# Altium footprint library 二三极管 MOS.PCBLIB: 88 footprints (part 4 of 6)
Each footprint in its own frame and in the unit in brackets; x right, y up, seen from the top. Pads: shape width x height; smd on the part's side, far side on the other; paste and mask are expansions set on the pad; w line width, h text height; cw(c..) or ccw(c..) is an arc to the next point about the centre after c.
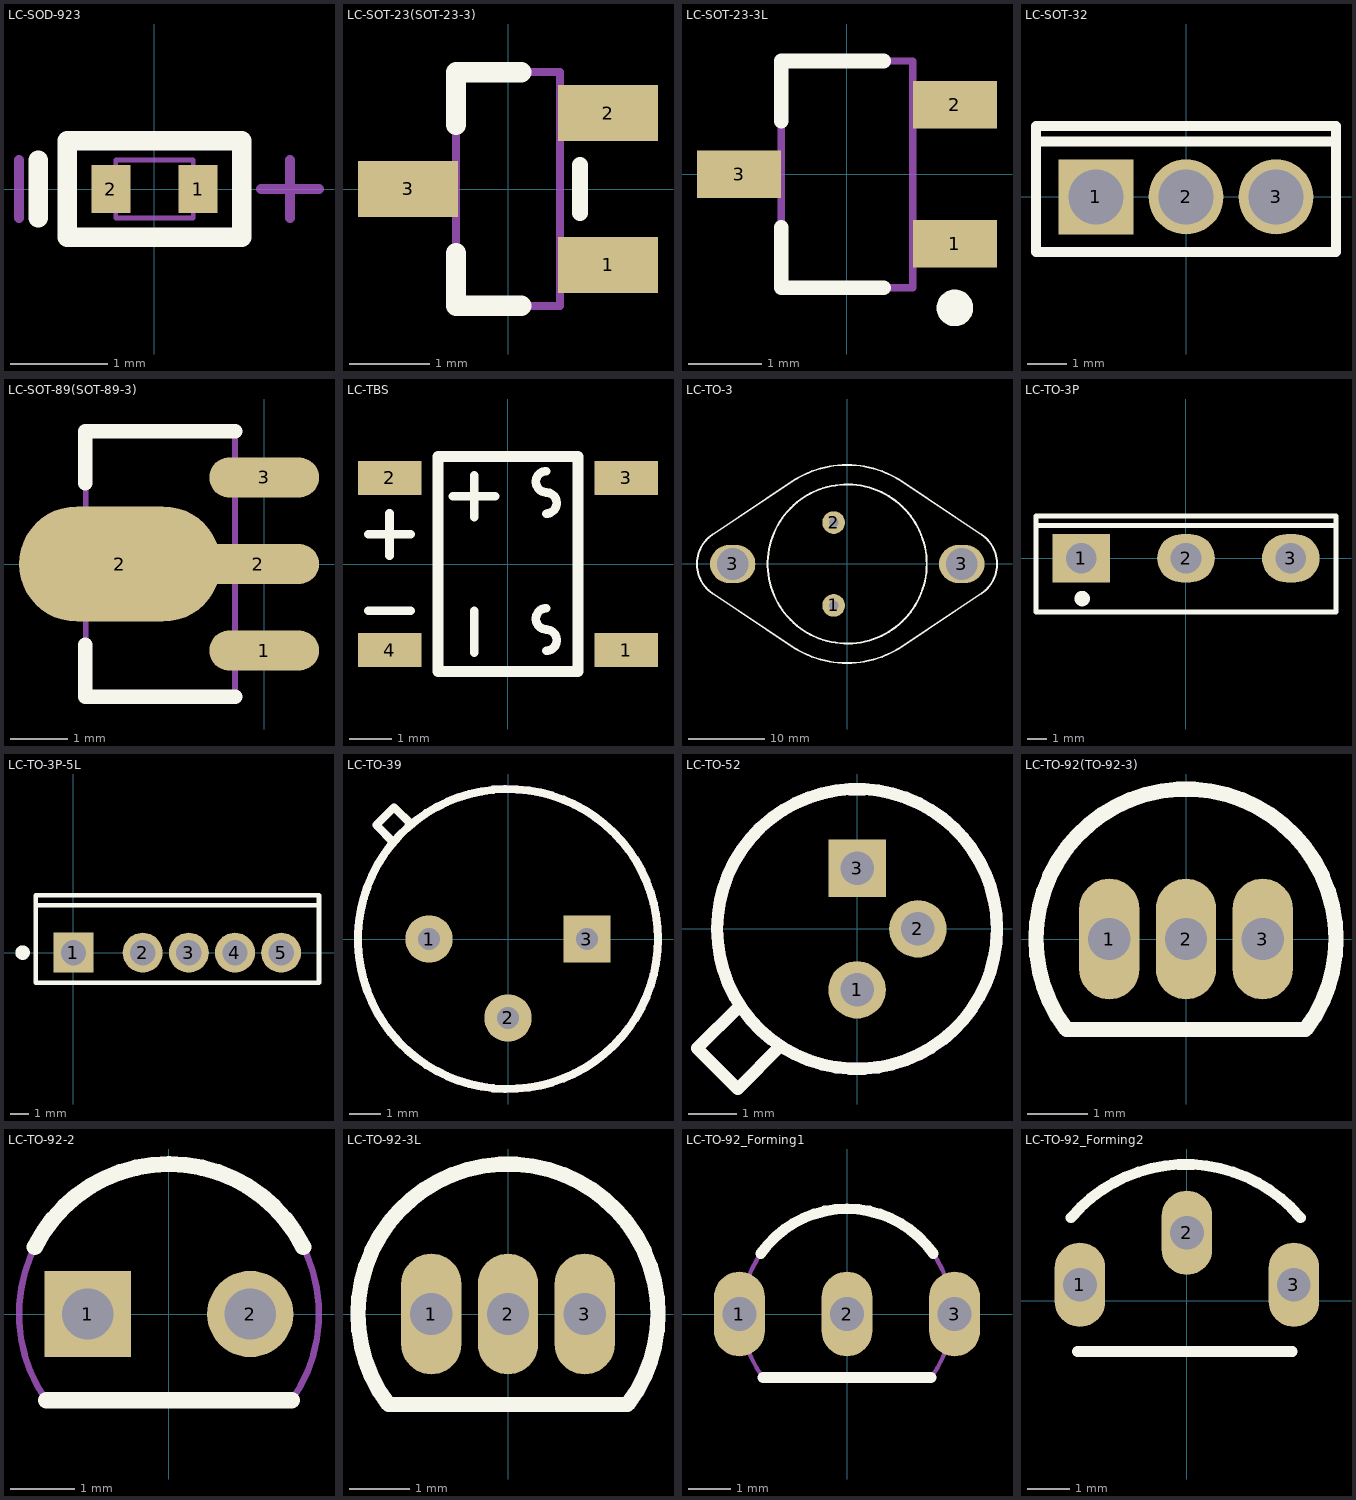
[diagram p3: the footprints below, top view; thin cyan lines are the x and y axes]

## LC-SOD-923 [mm]
pads (2):
  rect 0.4x0.5 smd: 1(0.45,0) 2(-0.45,0)
TopOverlay:
  lines w0.2: -1.2,-0.3 -1.2,0.3 ; -0.9,-0.5 0.9,-0.5 0.9,0.5 -0.9,0.5 -0.9,-0.5
Mechanical13:
  lines w0.05: -0.4,-0.3 0.4,-0.3 0.4,0.3 -0.4,0.3 -0.4,-0.3
Mechanical15:
  lines w0.1: -1.4,-0.3 -1.4,0.3 ; 1.1,0 1.7,0 ; 1.4,-0.3 1.4,0.3
3D body: height 0.43, standoff 0, extent -0.525,-0.325 0.525,0.325

## LC-SOT-23(SOT-23-3) [mm]
pads (3):
  rect 1.25x0.7 smd: 1(1.25,-0.95) 2(1.25,0.95) 3(-1.25,0)
TopOverlay:
  lines w0.2: 0.9,-0.3 0.9,0.3
  lines w0.254: -0.65,-0.8 -0.65,-1.46 0.165,-1.46 ; 0.165,1.46 -0.65,1.46 ; -0.65,0.8 -0.65,1.46 ; -0.65,0.8 -0.65,1.46 ; -0.65,0.8 -0.65,1.46
Mechanical13:
  lines w0.1: -0.65,-1.46 -0.65,1.46 ; -0.65,-1.46 0.65,-1.46 ; -0.65,-1.46 -0.65,1.46 ; -0.65,-1.46 0.65,-1.46 ; -0.65,-1.46 0.65,-1.46 ; -0.65,-1.46 -0.65,1.46 ; -0.65,1.46 0.65,1.46 ; -0.65,1.46 0.65,1.46 ; -0.65,1.46 0.65,1.46 ; 0.65,-1.46 0.65,1.46 ; 0.65,-1.46 0.65,1.46 ; 0.65,-1.46 0.65,1.46
3D body: height 1.3, standoff 0, extent -1.5,-1.5 1.5,1.5

## LC-SOT-23-3L [mm] "http://www.aosmd.com/res/packaging_information/SOT-23-3L.pdf"
height 1.25
pads (3):
  rect 1.15x0.65 smd: 1(1.475,-0.95) 2(1.475,0.95) 3(-1.475,0)
TopOverlay:
  circle w0.25: c1.475,-1.825 r0.125
  lines w0.2: -0.9,-0.725 -0.9,-1.55 0.5,-1.55 ; -0.9,0.725 -0.9,1.55 0.5,1.55
Mechanical13:
  lines w0.1: -0.9,-1.55 -0.9,1.55 0.9,1.55 0.9,-1.55 -0.9,-1.55
3D body: height 1.25, standoff 0, extent -0.9,-1.55 0.9,1.55

## LC-SOT-32 [mm]
pads (3):
  rect 1.9x1.9 hole 1.4: 1(-2.28,0)
  round 1.9 hole 1.4: 2(0,0) 3(2.28,0)
TopOverlay:
  lines w0.254: -3.8,1.4 3.8,1.4 ; -3.8,-1.4 -3.8,1.8 3.8,1.8 3.8,-1.4 -3.8,-1.4
3D body: height 13.19, standoff -3.54, extent -3.8,-1 3.8,1.55

## LC-SOT-89(SOT-89-3) [mm]
pads (4):
  oval 1.9x0.7 smd: 1(0,-1.5) 3(0,1.5)
  oval 3.5x2 smd: 2(-2.5,0)
  oval 2.1x0.7 smd: 2(-0.1,0)
TopOverlay:
  lines w0.254: -3.1,-1.4 -3.1,-2.3 -0.5,-2.3 ; -3.1,1.4 -3.1,2.3 -0.5,2.3
Mechanical13:
  lines w0.1: -3.095,-2.3 -0.505,-2.3 -0.505,2.3 -3.095,2.3 -3.095,-2.3
3D body: height 1.51, standoff 0, extent -3.75,-2.25 0.55,2.25

## LC-TBS [mm]
pads (4):
  rect 1.5x0.8 smd: 1(2.794,-2.032) 2(-2.794,2.032) 3(2.794,2.032) 4(-2.794,-2.032)
TopOverlay:
  lines w0.203: -3.3,-1.1 -2.3,-1.1 ; -3.3,0.7 -2.3,0.7 ; -2.8,0.2 -2.8,1.2 ; -1.3,1.6 -0.3,1.6 ; -0.8,-2.1 -0.8,-1.1 ; -0.8,1.1 -0.8,2.1 ; 0.9,-2.05 ccw(c0.9,-1.8) 0.9,-1.55 ; 0.9,1.19 ccw(c0.9,1.44) 0.9,1.69 ; 0.908,-1.545 cw(c0.908,-1.295) 0.908,-1.045 ; 0.908,1.695 cw(c0.908,1.945) 0.908,2.195
  lines w0.254: -1.651,-2.54 -1.651,2.54 1.651,2.54 1.651,-2.54 -1.651,-2.54

## LC-TO-3 [mm]
pads (4):
  round 3 hole 1.3: 1(-1.778,-5.461) 2(-1.778,5.461)
  oval 6x5 hole 4.2: 3(-15.113,0) 3(15.113,0)
TopOverlay:
  circle w0.254: c0,0 r10.5
  lines w0.254: -19.82,-0.051 ccw(c-15.22,-0.051) -17.773,-3.877 -7.246,-10.902 ccw(c-0.03,-0.089) -0.03,-13.089 -0.02,-13.089 ccw(c-0.02,-0.089) 7.196,-10.902 17.723,-3.877 ccw(c15.17,-0.051) 19.77,-0.051 19.77,0.051 ccw(c15.17,0.051) 17.723,3.877 7.196,10.902 ccw(c-0.02,0.089) -0.02,13.089 -0.03,13.089 ccw(c-0.03,0.089) -7.246,10.902 -17.773,3.877 ccw(c-15.22,0.051) -19.82,0.051 -19.82,-0.051
3D body: height 8.5, standoff -12, extent -19.757,-13.089 19.833,13.089

## LC-TO-3P [mm]
pads (3):
  rect 3x2.5 hole 1.6: 1(-5.45,0)
  oval 3x2.5 hole 1.6: 2(0,0) 3(5.45,0)
TopOverlay:
  circle w0.4: c-5.4,-2.1 r0.2
  lines w0.254: -7.8,1.7 7.8,1.7 ; -7.8,-2.8 7.8,-2.8 7.8,2.2 -7.8,2.2 -7.8,-2.8
3D body: height 24.4, standoff -15.5, extent -7.9,-2.9 7.7,1.81

## LC-TO-3P-5L [mm]
pads (5):
  rect 2.2x2.2 hole 1.4: 1(0,0)
  round 2.2 hole 1.4: 2(3.81,0) 3(6.35,0) 4(8.89,0) 5(11.43,0)
TopOverlay:
  circle w0.4: c-2.8,0 r0.2
  lines w0.254: -2.085,2.6 13.515,2.6 ; -2.085,-1.65 -2.085,3.15 13.515,3.15 13.515,-1.65 -2.085,-1.65

## LC-TO-39 [mm]
pads (3):
  round 1.5 hole 0.7 mask+0.051: 1(-2.5,0) 2(0,-2.5)
  rect 1.5x1.5 hole 0.7 mask+0.051: 3(2.5,0)
TopOverlay:
  circle w0.254: c0,0 r4.75
  lines w0.254: -3.63,3.06 -4.17,3.61 -3.61,4.17 -3.06,3.63
Mechanical13:
  circle w0.254: c0,0 r4.75
  lines w0.254: -3.63,3.06 -4.17,3.61 -3.61,4.17 -3.06,3.63

## LC-TO-52 [mm]
pads (3):
  round 1.2 hole 0.7 mask+0.051: 1(0,-1.27) 2(1.27,0)
  rect 1.2x1.2 hole 0.7 mask+0.051: 3(0,1.27)
TopOverlay:
  circle w0.254: c0,0 r2.92
  lines w0.254: -2.44,-1.6 -3.34,-2.49 -2.49,-3.34 -1.6,-2.44
Mechanical13:
  circle w0.254: c0,0 r2.92
  lines w0.254: -2.44,-1.6 -3.34,-2.49 -2.49,-3.34 -1.6,-2.44

## LC-TO-92(TO-92-3) [mm]
pads (3):
  oval 1x2 hole 0.7 mask+0.051: 1(-1.27,0) 2(0,0) 3(1.27,0)
TopOverlay:
  lines w0.254: -1.98,-1.5 cw(c0,0) 1.98,-1.5 -1.98,-1.5
Mechanical13:
  lines w0.1: -1.98,-1.5 cw(c0,0) 1.98,-1.5 -1.98,-1.5
3D body: height 8, standoff -5, extent -2.613,-1.6 2.613,2.604

## LC-TO-92-2 [mm]
pads (2):
  rect 1.35x1.35 hole 0.8: 1(-1.27,0)
  round 1.35 hole 0.8: 2(1.27,0)
TopOverlay:
  lines w0.254: -2.097,1.049 cw(c0,0) 2.097,1.049 ; -1.919,-1.348 1.919,-1.348
Mechanical13:
  lines w0.1: 1.919,-1.348 -1.919,-1.348 cw(c0,0) 1.92,-1.347
3D body: height 1.27, standoff -11.43, extent 1.035,-0.192 1.505,0.192
3D body: height 1.27, standoff -11.43, extent -1.505,-0.192 -1.035,0.192
3D body: height 6.6, standoff 1.27, extent -2.356,-1.351 2.356,2.356

## LC-TO-92-3L [mm]
pads (3):
  oval 1x2 hole 0.7 mask+0.051: 1(-1.27,0) 2(0,0) 3(1.27,0)
TopOverlay:
  lines w0.254: -1.98,-1.5 cw(c0,0) 1.98,-1.5 -1.98,-1.5
Mechanical13:
  lines w0.1: -1.98,-1.5 cw(c0,0) 1.98,-1.5 -1.98,-1.5

## LC-TO-92_Forming1 [mm]
pads (3):
  oval 1.2x2 hole 0.8: 1(-2.54,0) 2(0,0) 3(2.54,0)
TopOverlay:
  lines w0.254: -2.035,1.425 cw(c0,0) 2.035,1.425 ; -1.98,-1.5 1.98,-1.5
Mechanical13:
  lines w0.1: -1.98,-1.5 cw(c0,0) 1.98,-1.5 -1.98,-1.5

## LC-TO-92_Forming2 [mm]
pads (3):
  oval 1.2x2 hole 0.8: 1(-2.54,0.387) 2(0,1.619) 3(2.54,0.387)
TopOverlay:
  lines w0.254: -2.753,1.976 cw(c-0.029,-0.31) 2.695,1.976 ; -2.6,-1.2 2.5,-1.2
3D body: height 7.14, standoff -0.9, extent -2.84,-1.1 2.84,2.7